# Altium schematic symbol library Pedro_sch_lib.SchLib: 102 symbols
Pins are listed as number, name and electrical type; pins without a type are passive.

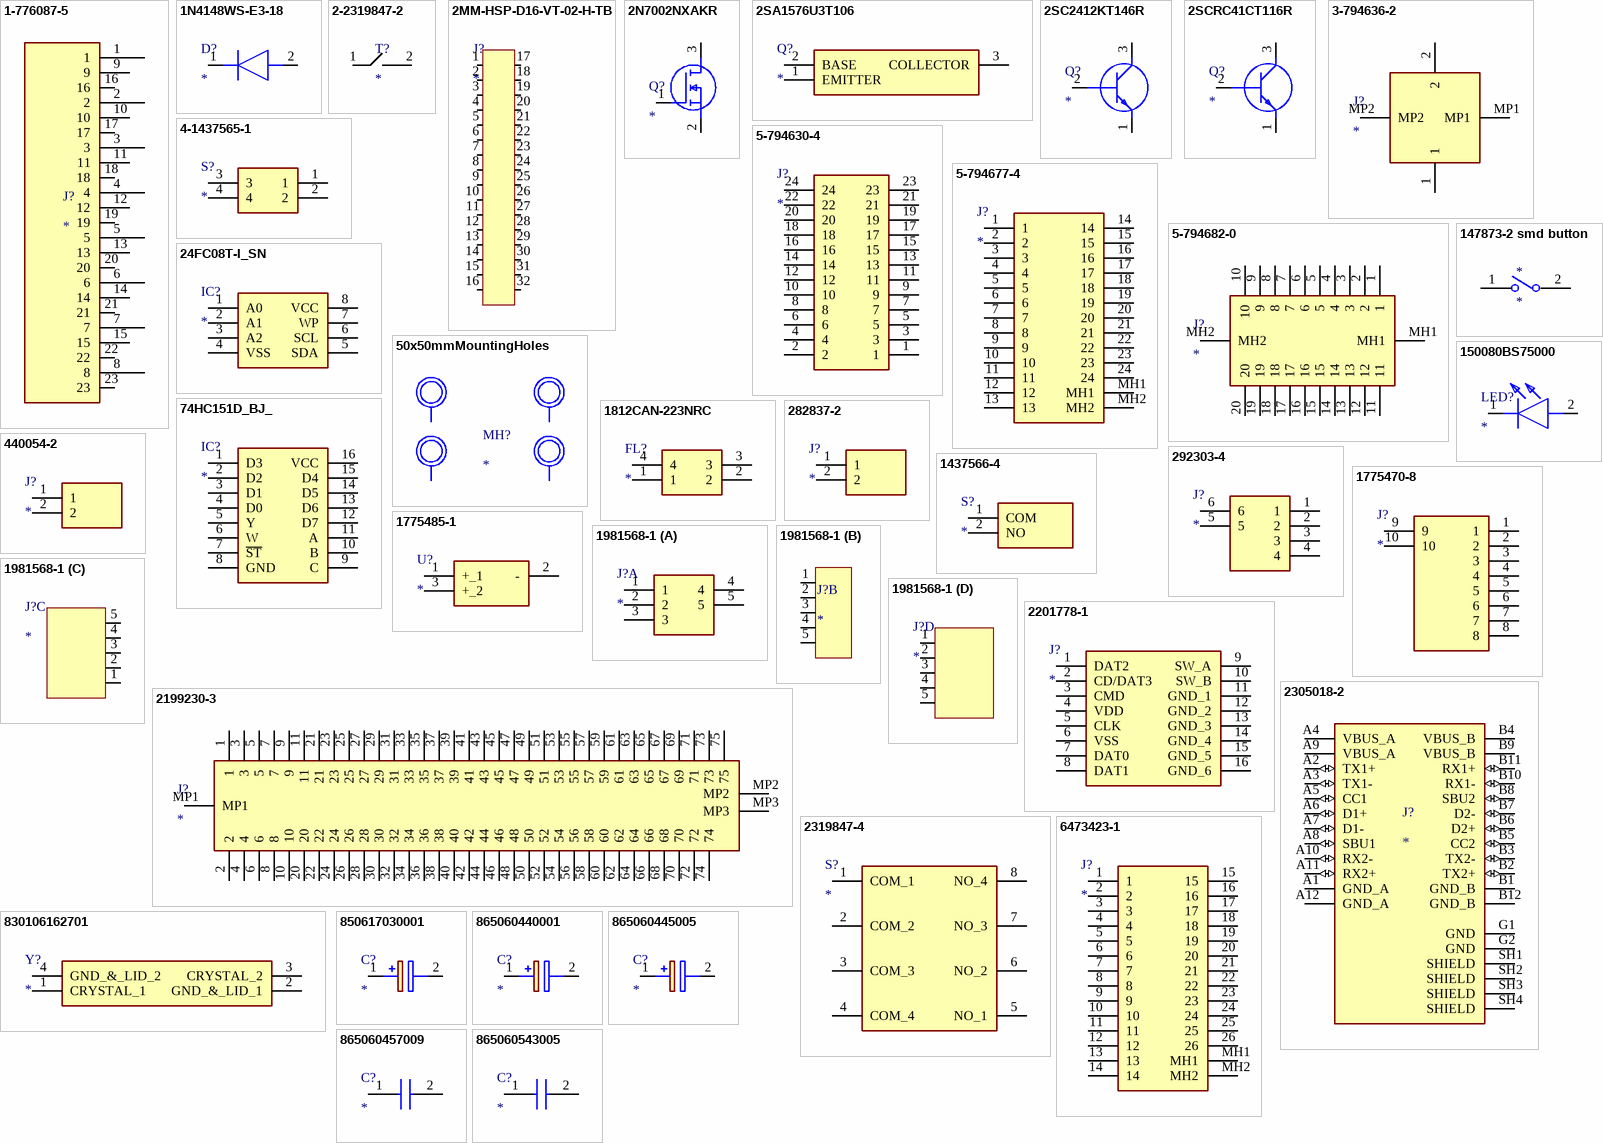
[diagram p0: symbols 1-776087-5 to 865060543005]

## 1-776087-5
designator J?
CONN HDR 23POS R/A W/GASKET AU
footprint 1-776087-5 (CONN HDR 23POS R/A W/GASKET AU)
pins: 1, 2, 3, 4, 5, 6, 7, 8, 9, 10, 11, 12, 13, 14, 15, 16, 17, 18, 19, 20, 21, 22, 23

## 1N4148WS-E3-18
designator D?
Diode; Manufacturer_Name: Vishay; Manufacturer_Part_Number: 1N4148WS-E3-18; Datasheet Link: https://www.vishay.com/docs/85751/1n4148ws.pdf; Height: 1.15mm; Mouser Part Number: 78-1N4148WS-E3-18; Mouser Price/Stock: https://www.mouser.co.uk/ProductDetail/Vishay-Semiconductors/1N4148WS-E3-18?qs=bTzheeSci6SMGZleBxLU%2Fg%3D%3D; Arrow Part Number: 1N4148WS-E3-18; Arrow Price/Stock: https://www.arrow.com/en/products/1n4148ws-e3-18/vishay?region=nac
footprint SOD2713X115N
pins: 1 K, 2 A

## 2-2319847-2
designator T?
footprint 2-2319847-2 (2)
pins: 1, 2

## 2MM-HSP-D16-VT-02-H-TB
designator J?
footprint 2MM-HSP-D16-VT-02-H-TB
pins: 1 (in), 2 (in), 3 (in), 4 (in), 5 (in), 6 (in), 7 (in), 8 (in), 9 (in), 10 (in), 11 (in), 12 (in), 13 (in), 14 (in), 15 (in), 16 (in), 17 (in), 18 (in), 19 (in), 20 (in), 21 (in), 22 (in), 23 (in), 24 (in), 25 (in), 26 (in), 27 (in), 28 (in), 29 (in), 30 (in), 31 (in), 32 (in)

## 2N7002NXAKR
designator Q?
MOSFET (N-Channel); Manufacturer_Name: Nexperia; Manufacturer_Part_Number: 2N7002NXAKR; Datasheet Link: https://assets.nexperia.com/documents/data-sheet/2N7002NXAK.pdf; Height: 1.1mm; Mouser Part Number: 771-2N7002NXAKR; Mouser Price/Stock: https://www.mouser.co.uk/ProductDetail/Nexperia/2N7002NXAKR?qs=%252B6g0mu59x7JoAsZYPFXqhw%3D%3D; Arrow Part Number: 2N7002NXAKR; Arrow Price/Stock: https://www.arrow.com/en/products/2n7002nxakr/nexperia?region=europe
footprint SOT95P230X110-3N
pins: 1 G, 2 S, 3 D

## 2SA1576U3T106
designator Q?
Transistor; Manufacturer_Name: ROHM Semiconductor; Manufacturer_Part_Number: 2SA1576U3T106; Height: 1mm
footprint 2SA1576U3T106
pins: 1 EMITTER, 2 BASE, 3 COLLECTOR

## 2SC2412KT146R
designator Q?
Transistor BJT NPN; Manufacturer_Name: ROHM Semiconductor; Manufacturer_Part_Number: 2SC2412KT146R; Datasheet Link: https://componentsearchengine.com/Datasheets/2/2SC2412KT146R.pdf; Height: 1mm; Mouser Part Number: 755-2SC2412KT146R; Mouser Price/Stock: https://www.mouser.co.uk/ProductDetail/ROHM-Semiconductor/2SC2412KT146R?qs=4kLU8WoGk0tpvx7TJSz0kg%3D%3D
footprint 2SC3906KT146ERS
pins: 1 E, 2 B, 3 C

## 2SCRC41CT116R
designator Q?
Transistor BJT NPN; Manufacturer_Name: ROHM Semiconductor; Manufacturer_Part_Number: 2SCRC41CT116R; Datasheet Link: https://datasheet.datasheetarchive.com/originals/distributors/Datasheets_SAMA/953df4fe31d6a1f75743e1da8a6d7a5d.pdf; Mouser Part Number: 755-2SCRC41CT116; Mouser Price/Stock: https://www.mouser.co.uk/ProductDetail/ROHM-Semiconductor/2SCRC41CT116R?qs=BJlw7L4Cy7%252BOqTjwpUJKrw%3D%3D
footprint SST2222AT116
pins: 1 E, 2 B, 3 C

## 3-794636-2
designator J?
Connector; Manufacturer_Name: TE Connectivity; Manufacturer_Part_Number: 3-794636-2; Datasheet Link: https://www.te.com/commerce/DocumentDelivery/DDEController?Action=srchrtrv&DocNm=micro-mate-n-lok-connector-qrg&DocType=Data%20Sheet&DocLang=English&PartCntxt=3-794636-2&DocFormat=pdf; Height: 9.24mm; Mouser Part Number: 571-3-794636-2; Mouser Price/Stock: https://www.mouser.co.uk/ProductDetail/TE-Connectivity-AMP/3-794636-2?qs=v9Lq4wUS19yMv%2FoCX5pCFA%3D%3D; Arrow Part Number: 3-794636-2; Arrow Price/Stock: https://www.arrow.com/en/products/3-794636-2/te-connectivity
footprint 37946362
pins: 1, 2, MP1, MP2

## 4-1437565-1
designator S?
Switch; Manufacturer_Name: TE Connectivity; Manufacturer_Part_Number: 4-1437565-1; Mouser Part Number: N/A; Mouser Price/Stock: https://www.mouser.com/Search/Refine.aspx?Keyword=N%2FA; Arrow Part Number: 4-1437565-1; Arrow Price/Stock: https://www.arrow.com/en/products/4-1437565-1/te-connectivity?region=europe
footprint FSM-SWITCH
pins: 1, 2, 3, 4

## 5-794630-4
designator J?
Connector; Manufacturer_Name: TE Connectivity; Manufacturer_Part_Number: 5-794630-4; Datasheet Link: https://www.te.com/commerce/DocumentDelivery/DDEController?Action=srchrtrv&DocNm=micro-mate-n-lok-connector-qrg&DocType=Data%20Sheet&DocLang=English&PartCntxt=5-794630-4&DocFormat=pdf; Height: 9.44mm; Mouser Part Number: 571-5-794630-4; Mouser Price/Stock: https://www.mouser.co.uk/ProductDetail/TE-Connectivity-AMP/5-794630-4?qs=aUp63snYJwAp03rqt0NfIw%3D%3D; Arrow Part Number: 5-794630-4; Arrow Price/Stock: https://www.arrow.com/en/products/5-794630-4/te-connectivity
footprint 57946304
pins: 1, 2, 3, 4, 5, 6, 7, 8, 9, 10, 11, 12, 13, 14, 15, 16, 17, 18, 19, 20, 21, 22, 23, 24

## 5-794677-4
designator J?
Connector; Manufacturer_Name: TE Connectivity; Manufacturer_Part_Number: 5-794677-4; Datasheet Link: https://www.te.com/commerce/DocumentDelivery/DDEController?Action=srchrtrv&DocNm=micro-mate-n-lok-connector-qrg&DocType=Data%20Sheet&DocLang=English&PartCntxt=5-794677-4&DocFormat=pdf; Height: 8.8mm; Mouser Part Number: 571-5-794677-4; Mouser Price/Stock: https://www.mouser.co.uk/ProductDetail/TE-Connectivity-AMP/5-794677-4?qs=FMZNX9%2FJjohUG%252B03dhkNbw%3D%3D; Arrow Part Number: 5-794677-4; Arrow Price/Stock: https://www.arrow.com/en/products/5-794677-4/te-connectivity?region=nac
footprint 57946774
pins: 1, 2, 3, 4, 5, 6, 7, 8, 9, 10, 11, 12, 13, 14, 15, 16, 17, 18, 19, 20, 21, 22, 23, 24, MH1, MH2

## 5-794682-0
designator J?
Connector; Manufacturer_Name: TE Connectivity; Manufacturer_Part_Number: 5-794682-0; Datasheet Link: https://www.te.com/commerce/DocumentDelivery/DDEController?Action=srchrtrv&DocNm=1773458-4_MICRO_MATE_N_LOK&DocType=Data+Sheet&DocLang=English&PartCntxt=5-794682-0&DocFormat=pdf; Height: 9.44mm; Mouser Part Number: 571-5-794682-0; Arrow Part Number: 5-794682-0; Arrow Price/Stock: https://www.arrow.com/en/products/5-794682-0/te-connectivity
footprint 57946820
pins: 1, 2, 3, 4, 5, 6, 7, 8, 9, 10, 11, 12, 13, 14, 15, 16, 17, 18, 19, 20, MH1, MH2

## 24FC08T-I_SN
designator IC?
Integrated Circuit; Manufacturer_Name: Microchip; Manufacturer_Part_Number: 24FC08T-I/SN; Datasheet Link: https://ww1.microchip.com/downloads/en/DeviceDoc/24AA08-24LC08B-24FC08-8K-I2C-Serial-EEPROM-20001710M.pdf; Height: 1.75mm; Mouser Part Number: 579-24FC08T-I/SN; Mouser Price/Stock: https://www.mouser.co.uk/ProductDetail/Microchip-Technology/24FC08T-I-SN?qs=xZ%2FP%252Ba9zWqaezx4tzQ%2FZjQ%3D%3D
footprint SOIC127P600X175-8N
pins: 1 A0, 2 A1, 3 A2, 4 VSS, 5 SDA, 6 SCL, 7 WP, 8 VCC

## 50x50mmMountingHoles
designator MH?
footprint 50x50mmMountingHoles
pins: 1, 2, 3, 4

## 74HC151D_BJ_
designator IC?
Integrated Circuit; Manufacturer_Name: Toshiba; Manufacturer_Part_Number: 74HC151D(BJ); Datasheet Link: https://toshiba.semicon-storage.com/info/docget.jsp?did=37241&prodName=74HC151D; Height: 1.75mm; Mouser Part Number: 757-74HC151DBJ; Mouser Price/Stock: https://www.mouser.co.uk/ProductDetail/Toshiba/74HC151DBJ?qs=lQAVKuKFhkK%2FsZbA3g%2Fr2w%3D%3D; Arrow Part Number: 74HC151D(BJ); Arrow Price/Stock: https://www.arrow.com/en/products/74hc151d-bj/toshiba
footprint SOIC127P600X175-16N
pins: 1 D3, 2 D2, 3 D1, 4 D0, 5 Y, 6 W, 7 ~{ST}, 8 GND, 9 C, 10 B, 11 A, 12 D7, 13 D6, 14 D5, 15 D4, 16 VCC

## 1812CAN-223NRC
designator FL?
Filter; Manufacturer_Name: COILCRAFT; Manufacturer_Part_Number: 1812CAN-223NRC; Datasheet Link: https://www.coilcraft.com/getmedia/07970769-ca48-411d-9c96-6ae867bbb31e/1812can.pdf; Height: 3mm; Mouser Part Number: 994-1812CAN-223NRC; Mouser Price/Stock: https://www.mouser.co.uk/ProductDetail/Coilcraft/1812CAN-223NRC?qs=wnTfsH77Xs58ULcmqHaGYA%3D%3D
footprint 1812CAN223NRC
pins: 1, 2, 3, 4

## 147873-2 smd button
designator *
footprint 147873-2 smd button
pins: 1, 2

## 150080BS75000
designator LED?
LED; Manufacturer_Name: Wurth Elektronik; Manufacturer_Part_Number: 150080BS75000; Datasheet Link: https://katalog.we-online.com/led/datasheet/150080BS75000.pdf; Height: 0.8mm; Mouser Part Number: 710-150080BS75000; Mouser Price/Stock: https://www.mouser.co.uk/ProductDetail/Wurth-Elektronik/150080BS75000?qs=2kOmHSv6VfT2tBo3UPVqAQ%3D%3D
footprint LEDC2012X80N
pins: 1 K, 2 A

## 282837-2
designator J?
Connector; Manufacturer_Name: TE Connectivity; Manufacturer_Part_Number: 282837-2; Datasheet Link: https://www.te.com/commerce/DocumentDelivery/DDEController?Action=srchrtrv&DocNm=282837&DocType=Customer+Drawing&DocLang=English&DocFormat=pdf&PartCntxt=282837-2; Height: 10.3mm; Mouser Part Number: 571-2828372; Mouser Price/Stock: https://www.mouser.co.uk/ProductDetail/TE-Connectivity/282837-2?qs=A%252Bip%252BNCYi6O2H0NGWOeAxg%3D%3D; Arrow Part Number: 282837-2; Arrow Price/Stock: https://www.arrow.com/en/products/282837-2/te-connectivity?region=europe
footprint 2828372
pins: 1, 2

## 292303-4
designator J?
Connector; Manufacturer_Name: TE Connectivity; Manufacturer_Part_Number: 292303-4; Datasheet Link: https://www.te.com/commerce/DocumentDelivery/DDEController?Action=srchrtrv&DocNm=292303&DocType=Customer+Drawing&DocLang=English&DocFormat=pdf&PartCntxt=292303-4; Height: 7.01mm; Mouser Part Number: 571-292303-4; Mouser Price/Stock: https://www.mouser.co.uk/ProductDetail/TE-Connectivity/292303-4?qs=G%2F5vCLrg9vwCSlBtJwPuyg%3D%3D; Arrow Part Number: 292303-4; Arrow Price/Stock: https://www.arrow.com/en/products/292303-4/te-connectivity?region=europe
footprint 2923034
pins: 1, 2, 3, 4, 5, 6

## 440054-2
designator J?
Connector; Manufacturer_Name: TE Connectivity; Manufacturer_Part_Number: 440054-2; Datasheet Link: https://www.te.com/commerce/DocumentDelivery/DDEController?Action=srchrtrv&DocNm=1-1773713-2_HPI_QRG_EN&DocType=Data%20Sheet&DocLang=English&PartCntxt=440054-2&DocFormat=pdf; Height: 6.35mm; Mouser Part Number: 571-440054-2; Mouser Price/Stock: https://www.mouser.co.uk/ProductDetail/TE-Connectivity/440054-2?qs=JFPmFzpscO4RQaczYEA68w%3D%3D; Arrow Part Number: 440054-2; Arrow Price/Stock: https://www.arrow.com/en/products/440054-2/te-connectivity?region=europe
footprint SHDR2W70P0X200_1X2_600X470X635P
pins: 1, 2

## 1437566-4
designator S?
Switch; Manufacturer_Name: TE Connectivity; Manufacturer_Part_Number: 1437566-4; Datasheet Link: https://www.te.com/commerce/DocumentDelivery/DDEController?Action=showdoc&DocId=Customer+Drawing%7F1437566-3%7FC2%7Fpdf%7FEnglish%7FENG_CD_1437566-3_C7F14375662_1437566_3_1_c.dwg.pdf%-4; Height: 4.87mm; Mouser Part Number: N/A; Mouser Price/Stock: https://www.mouser.co.uk/ProductDetail/TE-Connectivity-Alcoswitch/1437566-4?qs=xoXDFGdkQ2nbcMrTmW1sHA%3D%3D; Arrow Part Number: 1437566-4; Arrow Price/Stock: https://www.arrow.com/en/products/1437566-4/te-connectivity?region=europe
footprint 14375664
pins: 1 COM, 2 NO

## 1775470-8
designator J?
Connector; Manufacturer_Name: TE Connectivity; Manufacturer_Part_Number: 1775470-8; Datasheet Link: https://www.te.com/commerce/DocumentDelivery/DDEController?Action=srchrtrv&DocNm=1-1773713-2_HPI_QRG_EN&DocType=Data%20Sheet&DocLang=English&PartCntxt=1775470-8&DocFormat=pdf; Height: 6.45mm; Mouser Part Number: 571-1775470-8; Mouser Price/Stock: https://www.mouser.co.uk/ProductDetail/TE-Connectivity/1775470-8?qs=fvVej%2FMj3jfo21NaWvXI4g%3D%3D
footprint 17754708
pins: 1, 2, 3, 4, 5, 6, 7, 8, 9, 10

## 1775485-1
designator U?
Undefined or Miscellaneous; Manufacturer_Name: TE Connectivity; Manufacturer_Part_Number: 1775485-1; Datasheet Link: https://componentsearchengine.com/Datasheets/1/1775485-1.pdf; Height: 18.88mm; Mouser Part Number: 571-1775485-1; Mouser Price/Stock: https://www.mouser.co.uk/ProductDetail/TE-Connectivity/1775485-1?qs=wds1f20rnm1zdRmTAAf4bg%3D%3D; Arrow Part Number: 1775485-1; Arrow Price/Stock: https://www.arrow.com/en/products/1775485-1/te-connectivity?region=nac
footprint 17754851
pins: 1 +_1, 2 -, 3 +_2

## 1981568-1
designator J?
Connector; Manufacturer_Name: TE Connectivity; Manufacturer_Part_Number: 1981568-1; Datasheet Link: http://www.te.com/commerce/DocumentDelivery/DDEController?Action=srchrtrv&DocNm=1981568&DocType=Customer+Drawing&DocLang=English; Mouser Part Number: 571-1981568-1; Mouser Price/Stock: https://www.mouser.co.uk/ProductDetail/TE-Connectivity/1981568-1?qs=zxTme0yW%2FbaAfvOKTKC5hw%3D%3D; Arrow Part Number: 1981568-1; Arrow Price/Stock: https://www.arrow.com/en/products/1981568-1/te-connectivity?region=europe
footprint 1981568-1
part A pins: 1, 2, 3, 4, 5
part B pins: 1, 2, 3, 4, 5
part C pins: 1 VCC, 2 D-, 3 D+, 4 ID, 5 GND
part D pins: 1 VCC, 2 D-, 3 D+, 4 ID, 5 GND

## 2199230-3
designator J?
Connector; Manufacturer_Name: TE Connectivity; Manufacturer_Part_Number: 2199230-3; Datasheet Link: https://componentsearchengine.com/Datasheets/2/2199230-3.pdf; Height: 4.2mm; Mouser Part Number: 571-2199230-3; Mouser Price/Stock: https://www.mouser.co.uk/ProductDetail/TE-Connectivity/2199230-3?qs=EQCnRgr4b6HElQOKr5ma1Q%3D%3D; Arrow Part Number: 2199230-3; Arrow Price/Stock: https://www.arrow.com/en/products/2199230-3/te-connectivity?region=nac
footprint 21992303
footprint 21992303
pins: 1, 2, 3, 4, 5, 6, 7, 8, 9, 10, 11, 20, 21, 22, 23, 24, 25, 26, 27, 28, 29, 30, 31, 32, 33, 34, 35, 36, 37, 38, 39, 40, 41, 42, 43, 44, 45, 46, 47, 48, 49, 50, 51, 52, 53, 54, 55, 56, 57, 58, 59, 60, 61, 62, 63, 64, 65, 66, 67, 68, 69, 70, 71, 72, 73, 74, 75, MP1, MP2, MP3

## 2201778-1
designator J?
Connector; Manufacturer_Name: TE Connectivity; Manufacturer_Part_Number: 2201778-1; Datasheet Link: https://www.te.com/commerce/DocumentDelivery/DDEController?Action=showdoc&DocId=Customer+Drawing%7F2201778%7FB%7Fpdf%7FJapanese%7FJPN_CD_2201778_B.pdf%7F2201778-1; Height: 1.95mm; Mouser Part Number: 571-2201778-1; Mouser Price/Stock: https://www.mouser.co.uk/ProductDetail/TE-Connectivity/2201778-1?qs=%2F6W%2F9%2FHWvcBMWWw9w8oBng%3D%3D; Arrow Part Number: 2201778-1; Arrow Price/Stock: https://www.arrow.com/en/products/2201778-1/te-connectivity?region=nac
footprint 22017781
pins: 1 DAT2, 2 CD/DAT3, 3 CMD, 4 VDD, 5 CLK, 6 VSS, 7 DAT0, 8 DAT1, 9 SW_A, 10 SW_B, 11 GND_1, 12 GND_2, 13 GND_3, 14 GND_4, 15 GND_5, 16 GND_6

## 2305018-2
designator J?
MP: 2305018-2; Package: None; Price: None; Value: *; Availability: Unavailable
footprint TE_2305018-2
pins: A1 GND_A (power), A2 TX1+ (io), A3 TX1- (io), A4 VBUS_A (power), A5 CC1 (io), A6 D1+ (io), A7 D1- (io), A8 SBU1 (io), A9 VBUS_A (power), A10 RX2- (io), A11 RX2+ (io), A12 GND_A (power), B1 GND_B (power), B2 TX2+ (io), B3 TX2- (io), B4 VBUS_B (power), B5 CC2 (io), B6 D2+ (io), B7 D2- (io), B8 SBU2 (io), B9 VBUS_B (power), B10 RX1- (io), B11 RX1+ (io), B12 GND_B (power), G1 GND (power), G2 GND (power), SH1 SHIELD, SH2 SHIELD, SH3 SHIELD, SH4 SHIELD

## 2319847-4
designator S?
Switch; Manufacturer_Name: TE Connectivity; Manufacturer_Part_Number: 2319847-4; Datasheet Link: https://www.te.com/commerce/DocumentDelivery/DDEController?Action=srchrtrv&DocNm=2319847&DocType=Customer+Drawing&DocLang=English&PartCntxt=2-2319847-4&DocFormat=pdf; Height: 3.7mm
footprint 23198474
pins: 1 COM_1, 2 COM_2, 3 COM_3, 4 COM_4, 5 NO_1, 6 NO_2, 7 NO_3, 8 NO_4

## 6473423-1
designator J?
Connector; Manufacturer_Name: TE Connectivity; Manufacturer_Part_Number: 6473423-1; Datasheet Link: https://www.te.com/commerce/DocumentDelivery/DDEController?Action=showdoc&DocId=Customer+Drawing%7F9-1437287-8%7FA1%7Fpdf%7FEnglish%7FENG_CD_9-1437287-8_A1.pdf%7F6473423-1; Height: 27.9mm; Mouser Part Number: 571-6473423-1; Mouser Price/Stock: https://www.mouser.co.uk/ProductDetail/TE-Connectivity/6473423-1?qs=XhI5AayaxxW9FyxB9N39mQ%3D%3D
footprint 64734231
pins: 1, 2, 3, 4, 5, 6, 7, 8, 9, 10, 11, 12, 13, 14, 15, 16, 17, 18, 19, 20, 21, 22, 23, 24, 25, 26, MH1, MH2

## 830106162701
designator Y?
Crystal or Oscillator; Manufacturer_Name: Wurth Elektronik; Manufacturer_Part_Number: 830106162701; Datasheet Link: https://www.we-online.com/components/products/datasheet/830106162701.pdf; Height: 1mm; Mouser Part Number: 710-830106162701; Mouser Price/Stock: https://www.mouser.co.uk/ProductDetail/Wurth-Elektronik/830106162701?qs=hd1VzrDQEGiB2nVeND4SIw%3D%3D
footprint 830106162701
pins: 1 CRYSTAL_1, 2 GND_&_LID_1, 3 CRYSTAL_2, 4 GND_&_LID_2

## 850617030001
designator C?
Capacitor Polarised; Manufacturer_Name: Wurth Elektronik; Manufacturer_Part_Number: 850617030001; Datasheet Link: https://katalog.we-online.de/pbs/datasheet/850617030001.pdf; Height: 21.5mm; Mouser Part Number: 710-850617030001; Mouser Price/Stock: https://www.mouser.co.uk/ProductDetail/Wurth-Elektronik/850617030001?qs=l7cgNqFNU1hh13Y2cfV1Tw%3D%3D
footprint CAPPRD350W62D800H2150
pins: 1 +, 2 -

## 865060440001
designator C?
Capacitor Polarised; Manufacturer_Name: Wurth Elektronik; Manufacturer_Part_Number: 865060440001; Datasheet Link: http://katalog.we-online.com/pbs/datasheet/865060440001.pdf; Height: 5.5mm; Mouser Part Number: 710-865060440001; Mouser Price/Stock: https://www.mouser.co.uk/ProductDetail/Wurth-Elektronik/865060440001?qs=0KOYDY2FL2%2F0%252BB%2FYmDkXJw%3D%3D
footprint CAPAE530X550N
pins: 1 +, 2 -

## 865060445005
designator C?
Capacitor Polarised; Manufacturer_Name: Wurth Elektronik; Manufacturer_Part_Number: 865060445005; Datasheet Link: https://ms.componentsearchengine.com/Datasheets/2/865060445005.pdf; Height: 7.7mm; Mouser Part Number: 710-865060445005; Mouser Price/Stock: https://www.mouser.co.uk/ProductDetail/Wurth-Elektronik/865060445005?qs=0KOYDY2FL2%252BCv0w4UmroOg%3D%3D
footprint CAPAE660X770N
pins: 1 +, 2 -

## 865060457009
designator C?
Capacitor; Manufacturer_Name: Wurth Elektronik; Manufacturer_Part_Number: 865060457009; Datasheet Link: https://www.mouser.ch/datasheet/2/445/865060457009-3100105.pdf; Height: 10.5mm; Mouser Part Number: 710-865060457009; Mouser Price/Stock: https://www.mouser.com/Search/Refine.aspx?Keyword=710-865060457009
footprint CAPAE1030X1050N
pins: 1 +, 2 -

## 865060543005
designator C?
Capacitor; Manufacturer_Name: Wurth Elektronik; Manufacturer_Part_Number: 865060543005; Datasheet Link: https://componentsearchengine.com/Datasheets/1/865060543005.pdf; Height: 5.5mm; Mouser Part Number: 710-865060543005; Mouser Price/Stock: https://www.mouser.co.uk/ProductDetail/Wurth-Elektronik/865060543005?qs=0KOYDY2FL29pKd1yRWsrOw%3D%3D
footprint 865060543005
pins: 1 +, 2 -

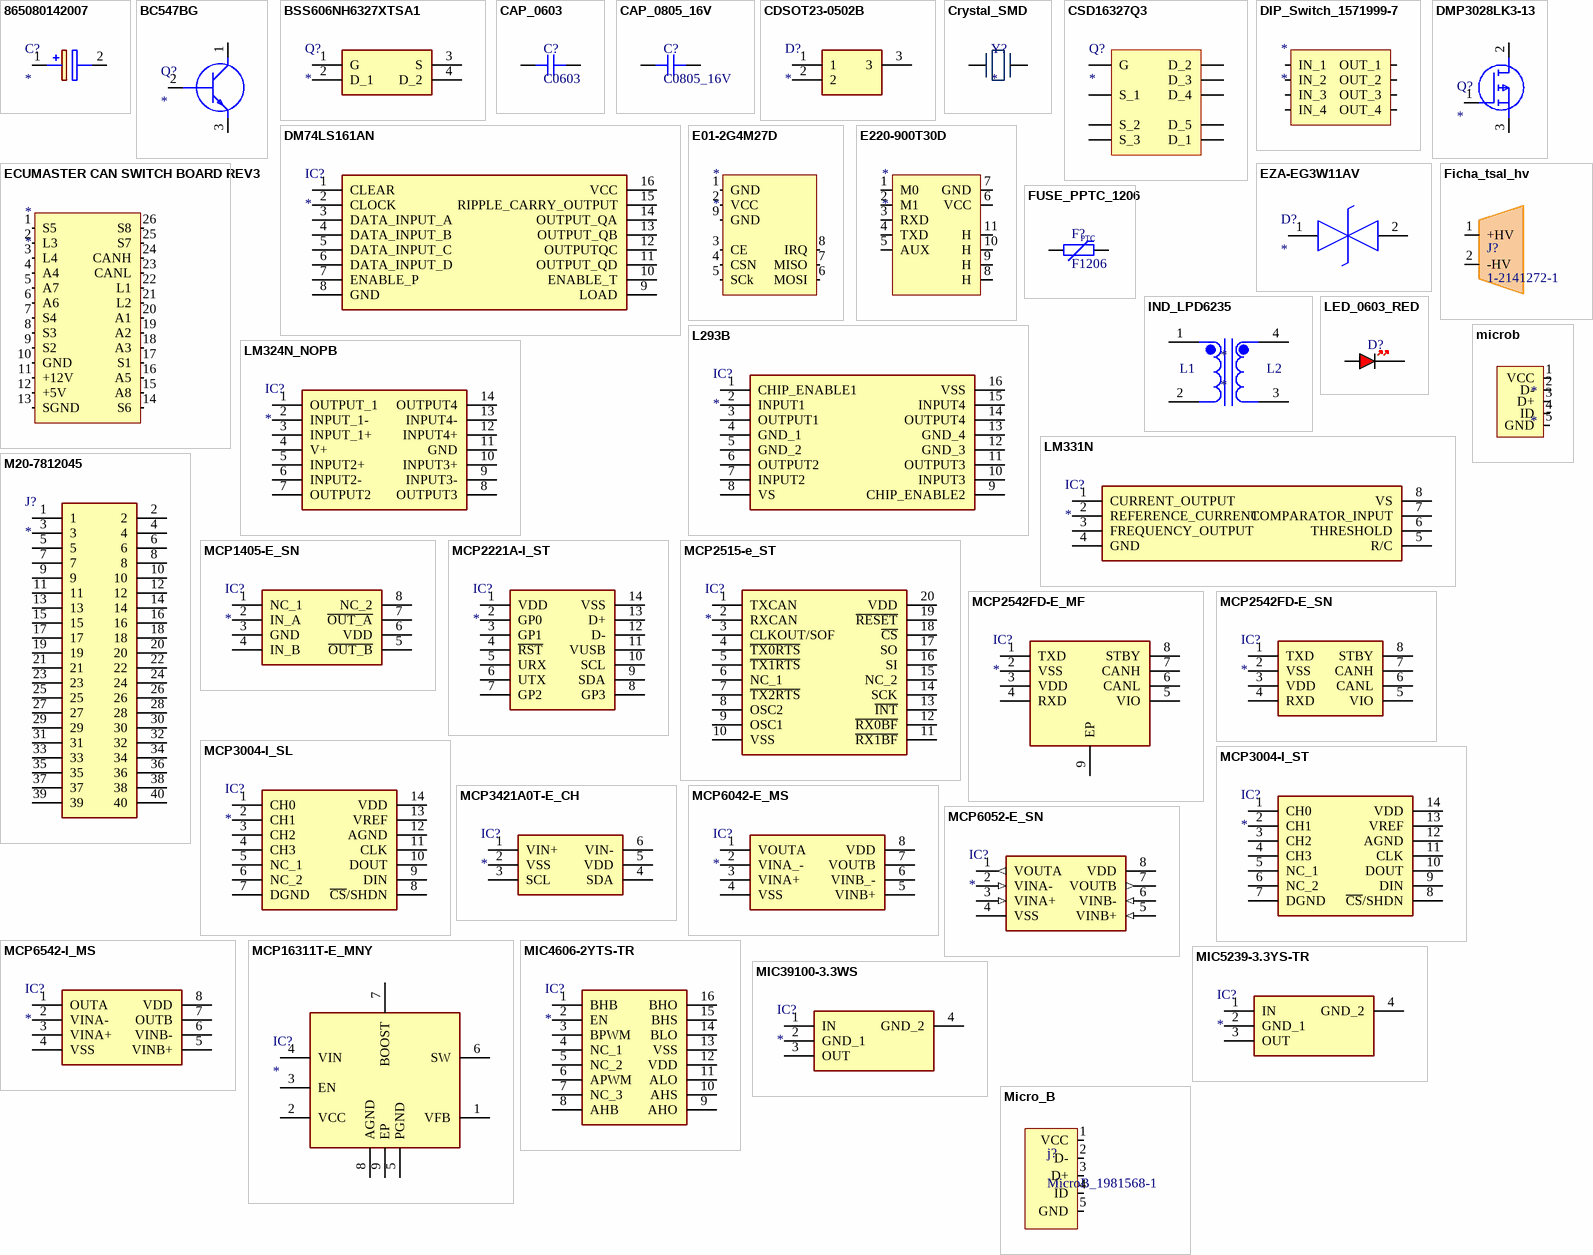
[diagram p1: symbols 865080142007 to microb]

## 865080142007
designator C?
Capacitor Polarised; Manufacturer_Name: Wurth Elektronik; Manufacturer_Part_Number: 865080142007; Datasheet Link: https://katalog.we-online.com/pbs/datasheet/865080142007.pdf; Height: 5.5mm; Mouser Part Number: 710-865080142007; Mouser Price/Stock: https://www.mouser.co.uk/ProductDetail/Wurth-Elektronik/865080142007?qs=0KOYDY2FL2%2Fwso3YmuIP2w%3D%3D
footprint CAPAE530X550N
pins: 1 +, 2 -

## BC547BG
designator Q?
Transistor BJT NPN; Manufacturer_Name: onsemi; Manufacturer_Part_Number: BC547BG; Datasheet Link: https://datasheet.datasheetarchive.com/originals/distributors/Datasheets-23/DSA-455923.pdf; Height: 5.33mm; Mouser Part Number: N/A; Mouser Price/Stock: http://www.mouser.com/Search/ProductDetail.aspx?qs=NSmgnqlvnz5NIKIycfR5CQ%3d%3d; Arrow Part Number: BC547BG; Arrow Price/Stock: http://www.arrow.com/en/products/bc547bg/on-semiconductor
footprint TO-92_(TO-226)
pins: 1 C, 2 B, 3 E

## BSS606NH6327XTSA1
designator Q?
MOSFET (N-Channel); Manufacturer_Name: Infineon; Manufacturer_Part_Number: BSS606NH6327XTSA1; Datasheet Link: https://www.infineon.com/dgdl/Infineon-BSS606N-DS-v02_02-en.pdf?fileId=db3a30433dfcb54c013dfd4f43ed0120; Height: 1.6mm; Mouser Part Number: 726-BSS606NH6327XTSA; Mouser Price/Stock: https://www.mouser.co.uk/ProductDetail/Infineon-Technologies/BSS606NH6327XTSA1?qs=9Y9qB%2FCsC3lGGr4kqFEodQ%3D%3D; Arrow Part Number: BSS606NH6327XTSA1; Arrow Price/Stock: https://www.arrow.com/en/products/bss606nh6327xtsa1/infineon-technologies-ag
footprint BSS606NH6327XTSA1
pins: 1 G, 2 D_1, 3 S, 4 D_2

## CAP_0603
designator C?, comment C0603
Capacitor SMD 0603; Manufacturer: *; Manufacturer Part Number: *; Distributor Link: *; LCSC: *; Rating: *; Dielectric: *
footprint CAP_0603
pins: 1, 2

## CAP_0805_16V
designator C?, comment C0805_16V
Capacitor SMD 0805 16V
footprint CAP_0805
pins: 1, 2

## CDSOT23-0502B
designator D?
TVS Diode (Bi-directional); Manufacturer_Name: Bourns; Manufacturer_Part_Number: CDSOT23-0502B; Datasheet Link: https://componentsearchengine.com/Datasheets/5/CDSOT23-0502B.pdf; Height: 1.05mm; Mouser Part Number: 652-CDSOT23-0502B; Mouser Price/Stock: https://www.mouser.co.uk/ProductDetail/Bourns/CDSOT23-0502B?qs=6S5Watp5UnLRIGsPgx0eRQ%3D%3D; Arrow Part Number: CDSOT23-0502B; Arrow Price/Stock: https://www.arrow.com/en/products/cdsot23-0502b/bourns?region=nac
footprint CDSOT230502B
pins: 1, 2, 3

## Crystal_SMD
designator Y?
footprint ABM38000MHZC4T
pins: 1, 2

## CSD16327Q3
designator Q?
MOSFET (N-Channel); Manufacturer_Name: Texas Instruments; Manufacturer_Part_Number: CSD16327Q3; Datasheet Link: https://www.ti.com/lit/ds/symlink/csd16327q3.pdf?HQS=dis-mous-null-mousermode-dsf-pf-null-wwe&ts=1620965148072&ref_url=https%253A%252F%252Fwww.mouser.com%252F; Height: 1.1mm; Mouser Part Number: 595-CSD16327Q3; Mouser Price/Stock: https://www.mouser.co.uk/ProductDetail/Texas-Instruments/CSD16327Q3?qs=3jfYfyvUSwCG33cNK3hedw%3D%3D; Arrow Part Number: CSD16327Q3; Arrow Price/Stock: https://www.arrow.com/en/products/csd16327q3/texas-instruments?region=nac
footprint CSD16327Q3
pins: 1 S_1, 2 S_2, 3 S_3, 4 G, 5 D_1 (power), 6 D_2 (power), 7 D_3 (power), 8 D_4 (power), 9 D_5 (power)

## DIP_Switch_1571999-7
designator *
footprint DIP_Switch_1571999-7 - duplicate
pins: 1 IN_1, 2 IN_2, 3 IN_3, 4 IN_4, 5 OUT_4, 6 OUT_3, 7 OUT_2, 8 OUT_1

## DM74LS161AN
designator IC?
Integrated Circuit; Manufacturer_Name: onsemi; Manufacturer_Part_Number: DM74LS161AN; Datasheet Link: https://media.digikey.com/pdf/Data%20Sheets/Fairchild%20PDFs/DM74LS161A,163A.pdf; Height: 5.08mm; Mouser Part Number: 512-DM74LS161AN; Mouser Price/Stock: https://www.mouser.co.uk/ProductDetail/ON-Semiconductor-Fairchild/DM74LS161AN?qs=bQyqOsPbpX%2Fz3HsKaGP1jA%3D%3D
footprint DIP787W58P254L1930H508Q16N
pins: 1 CLEAR, 2 CLOCK, 3 DATA_INPUT_A, 4 DATA_INPUT_B, 5 DATA_INPUT_C, 6 DATA_INPUT_D, 7 ENABLE_P, 8 GND, 9 LOAD, 10 ENABLE_T, 11 OUTPUT_QD, 12 OUTPUTQC, 13 OUTPUT_QB, 14 OUTPUT_QA, 15 RIPPLE_CARRY_OUTPUT, 16 VCC

## DMP3028LK3-13
designator Q?
MOSFET (P-Channel); Manufacturer_Name: Diodes Inc.; Manufacturer_Part_Number: DMP3028LK3-13; Datasheet Link: https://componentsearchengine.com/Datasheets/1/DMP3028LK3-13.pdf; Height: 2.39mm; Mouser Part Number: 621-DMP3028LK3-13; Mouser Price/Stock: https://www.mouser.co.uk/ProductDetail/Diodes-Incorporated/DMP3028LK3-13?qs=OVC8WVYZliSFpRP3sPErZQ%3D%3D; Arrow Part Number: DMP3028LK3-13; Arrow Price/Stock: https://www.arrow.com/en/products/dmp3028lk3-13/diodes-incorporated
footprint DMP3028LK313
pins: 1 G, 2 D, 3 S

## E01-2G4M27D
designator *
footprint E01-2G4M27D
pins: 1 GND (in), 2 VCC (in), 3 CE (in), 4 CSN (in), 5 SCk (in), 6 MOSI (in), 7 MISO (in), 8 IRQ (in), 9 GND (in)

## E220-900T30D
designator *
footprint E220-900T30D
pins: 1 M0 (in), 2 M1 (in), 3 RXD (in), 4 TXD (in), 5 AUX (in), 6 VCC (in), 7 GND (in), 8 H (in), 9 H (in), 10 H (in), 11 H (in)

## ECUMASTER CAN SWITCH BOARD REV3
designator *
footprint ECUMASTER CAN SWITCH BOARD REV3
pins: 1 S5 (in), 2 L3 (in), 3 L4 (in), 4 A4 (in), 5 A7 (in), 6 A6 (in), 7 S4 (in), 8 S3 (in), 9 S2 (in), 10 GND (in), 11 +12V (in), 12 +5V (in), 13 SGND (in), 14 S6 (in), 15 A8 (in), 16 A5 (in), 17 S1 (in), 18 A3 (in), 19 A2 (in), 20 A1 (in), 21 L2 (in), 22 L1 (in), 23 CANL (in), 24 CANH (in), 25 S7 (in), 26 S8 (in)

## EZA-EG3W11AV
designator D?
Diode ESD (Bi-directional); Manufacturer_Name: Panasonic; Manufacturer_Part_Number: EZA-EG3W11AV; Datasheet Link: https://industrial.panasonic.com/cdbs/www-data/pdf/AWD0000/AWD0000C26.pdf; Height: 0.5mm; Mouser Part Number: 667-EZA-EG3W11AV; Mouser Price/Stock: https://www.mouser.co.uk/ProductDetail/Panasonic/EZA-EG3W11AV?qs=0lSvoLzn4L%252BhlS%252B2lqbWqw%3D%3D; Arrow Part Number: EZA-EG3W11AV; Arrow Price/Stock: https://www.arrow.com/en/products/eza-eg3w11av/panasonic; Simulation Data: https://industrial.panasonic.com/content/data/CC/files/EZAEG3W11AV.zip
footprint EZAEG3W11AV
pins: 1 K1, 2 K2

## Ficha_tsal_hv
designator J?, comment 1-2141272-1
TE 1-2141272-1
footprint Ficha_tsal_hv
pins: 1 +HV, 2 -HV

## FUSE_PPTC_1206
designator F?, comment F1206
Fuse PPTC SMD 1206; Manufacturer: *; Manufacturer Part Number: *
footprint FUSE_1206
pins: 1, 2
text: PTC

## IND_LPD6235
designator *
footprint IND_LPD6235
pins: 1, 2, 3, 4
text: L1; L2

## L293B
designator IC?
Integrated Circuit; Manufacturer_Name: STMicroelectronics; Manufacturer_Part_Number: L293B; Datasheet Link: http://www.st.com/web/en/resource/technical/document/datasheet/CD00000058.pdf; Height: 5.1mm; Mouser Part Number: 511-L293B; Mouser Price/Stock: https://www.mouser.co.uk/ProductDetail/STMicroelectronics/L293B?qs=gr8Zi5OG3Mhln2B1GrZirA%3D%3D; Arrow Part Number: L293B; Arrow Price/Stock: https://www.arrow.com/en/products/l293b/stmicroelectronics?region=nac
footprint DIP850W50P254L2000H510Q16N
pins: 1 CHIP_ENABLE1, 2 INPUT1, 3 OUTPUT1, 4 GND_1, 5 GND_2, 6 OUTPUT2, 7 INPUT2, 8 VS, 9 CHIP_ENABLE2, 10 INPUT3, 11 OUTPUT3, 12 GND_3, 13 GND_4, 14 OUTPUT4, 15 INPUT4, 16 VSS

## LED_0603_RED
designator D?, comment RED  (value not drawn)
LED 0603 RED SMD
footprint LED_0603_RED
pins: A, K

## LM324N_NOPB
designator IC?
Integrated Circuit; Manufacturer_Name: Texas Instruments; Manufacturer_Part_Number: LM324N/NOPB; Datasheet Link: http://www.ti.com/general/docs/lit/getliterature.tsp?genericPartNumber=LM324-N&fileType=pdf&HQS=ti-null-null-sf-df-pf-sep-wwe&DCM=yes; Height: 5.334mm; Mouser Part Number: 926-LM324N/NOPB; Mouser Price/Stock: https://www.mouser.co.uk/ProductDetail/Texas-Instruments/LM324N-NOPB?qs=X1J7HmVL2ZGOUbLumEeh2Q%3D%3D; Arrow Part Number: LM324N/NOPB; Arrow Price/Stock: https://www.arrow.com/en/products/lm324nnopb/texas-instruments?region=nac
footprint DIP794W56P254L1905H533Q14N
pins: 1 OUTPUT_1, 2 INPUT_1-, 3 INPUT_1+, 4 V+, 5 INPUT2+, 6 INPUT2-, 7 OUTPUT2, 8 OUTPUT3, 9 INPUT3-, 10 INPUT3+, 11 GND, 12 INPUT4+, 13 INPUT4-, 14 OUTPUT4

## LM331N
designator IC?
Integrated Circuit; Manufacturer_Name: Texas Instruments; Manufacturer_Part_Number: LM331N; Datasheet Link: https://www.ti.com/lit/ds/symlink/lm331.pdf?ts=1629180411524&ref_url=https%253A%252F%252Fwww.ti.com%252Fstore%252Fti%252Fen%252Fp%252Fproduct%252F%253Fp%253DLM331N%252FNOPB; Height: 5.08mm; Mouser Part Number: 926-LM331N; Mouser Price/Stock: https://www.mouser.co.uk/ProductDetail/Texas-Instruments/LM331N?qs=X1J7HmVL2ZFXr8PLB7optQ%3D%3D
footprint DIP794W53P254L959H508Q8N
pins: 1 CURRENT_OUTPUT, 2 REFERENCE_CURRENT, 3 FREQUENCY_OUTPUT, 4 GND, 5 R/C, 6 THRESHOLD, 7 COMPARATOR_INPUT, 8 VS

## M20-7812045
designator J?
Connector; Manufacturer_Name: Harwin; Manufacturer_Part_Number: M20-7812045; Datasheet Link: https://componentsearchengine.com/Datasheets/1/M20-7812045.pdf; Height: 3.7mm; Mouser Part Number: 855-M20-7812045; Mouser Price/Stock: https://www.mouser.co.uk/ProductDetail/Harwin/M20-7812045?qs=k41KVqW3ymrt1YgXO%2FWJcg%3D%3D
footprint M207812045
pins: 1, 2, 3, 4, 5, 6, 7, 8, 9, 10, 11, 12, 13, 14, 15, 16, 17, 18, 19, 20, 21, 22, 23, 24, 25, 26, 27, 28, 29, 30, 31, 32, 33, 34, 35, 36, 37, 38, 39, 40

## MCP1405-E_SN
designator IC?
Integrated Circuit; Manufacturer_Name: Microchip; Manufacturer_Part_Number: MCP1405-E/SN; Datasheet Link: https://datasheet.datasheetarchive.com/originals/distributors/SFDatasheet-4/sf-00090019.pdf; Height: 1.75mm; Mouser Part Number: 579-MCP1405-E/SN; Mouser Price/Stock: https://www.mouser.co.uk/ProductDetail/Microchip-Technology/MCP1405-E-SN?qs=usxtMOJb1Rz6iJkGGONxgg%3D%3D; Arrow Part Number: MCP1405-E/SN; Arrow Price/Stock: https://www.arrow.com/en/products/mcp1405-esn/microchip-technology
footprint SOIC127P600X175-8N
pins: 1 NC_1, 2 IN_A, 3 GND, 4 IN_B, 5 ~{OUT_B}, 6 VDD, 7 ~{OUT_A}, 8 NC_2

## MCP2221A-I_ST
designator IC?
Integrated Circuit; Manufacturer_Name: Microchip; Manufacturer_Part_Number: MCP2221A-I/ST; Datasheet Link: http://ww1.microchip.com/downloads/en/devicedoc/20005565b.pdf; Height: 1.2mm; Mouser Part Number: 579-MCP2221A-I/ST; Mouser Price/Stock: https://www.mouser.co.uk/ProductDetail/Microchip-Technology-Atmel/MCP2221A-I-ST?qs=ZEMkBHnybREMkqMgzOrcGQ%3D%3D; Arrow Part Number: MCP2221A-I/ST; Arrow Price/Stock: https://www.arrow.com/en/products/mcp2221a-ist/microchip-technology?region=nac
footprint SOP65P640X120-14N
pins: 1 VDD, 2 GP0, 3 GP1, 4 ~{RST}, 5 URX, 6 UTX, 7 GP2, 8 GP3, 9 SDA, 10 SCL, 11 VUSB, 12 D-, 13 D+, 14 VSS

## MCP2515-e_ST
designator IC?
Integrated Circuit; Manufacturer_Name: Microchip; Manufacturer_Part_Number: MCP2515-e/ST; Datasheet Link: https://datasheet.datasheetarchive.com/originals/distributors/SFDatasheet-4/sf-00090060.pdf; Height: 1.2mm; Mouser Part Number: 579-MCP2515-E/ST; Mouser Price/Stock: https://www.mouser.co.uk/ProductDetail/Microchip-Technology/MCP2515-E-ST?qs=y1t9dHv1DsIvDWDHTyyG6w%3D%3D; Arrow Part Number: MCP2515-E/ST; Arrow Price/Stock: https://www.arrow.com/en/products/mcp2515-est/microchip-technology?region=nac
footprint SOP65P640X120-20N
pins: 1 TXCAN, 2 RXCAN, 3 CLKOUT/SOF, 4 ~{TX0RTS}, 5 ~{TX1RTS}, 6 NC_1, 7 ~{TX2RTS}, 8 OSC2, 9 OSC1, 10 VSS, 11 ~{RX1BF}, 12 ~{RX0BF}, 13 ~{INT}, 14 SCK, 15 NC_2, 16 SI, 17 SO, 18 ~{CS}, 19 ~{RESET}, 20 VDD

## MCP2542FD-E_MF
designator IC?
Integrated Circuit; Manufacturer_Name: Microchip; Manufacturer_Part_Number: MCP2542FD-E/MF; Datasheet Link: http://ww1.microchip.com/downloads/en/devicedoc/20005514a.pdf; Height: 1mm; Mouser Part Number: 579-MCP2542FD-E/MF; Mouser Price/Stock: https://www.mouser.co.uk/ProductDetail/Microchip-Technology-Atmel/MCP2542FD-E-MF?qs=l7cgNqFNU1jog4BwTzULBw%3D%3D; Arrow Part Number: MCP2542FD-E/MF; Arrow Price/Stock: https://www.arrow.com/en/products/mcp2542fd-emf/microchip-technology?region=nac
footprint SON65P300X300X100-9N-D
pins: 1 TXD, 2 VSS, 3 VDD, 4 RXD, 5 VIO, 6 CANL, 7 CANH, 8 STBY, 9 EP

## MCP2542FD-E_SN
designator IC?
Integrated Circuit; Manufacturer_Name: Microchip; Manufacturer_Part_Number: MCP2542FD-E/SN; Datasheet Link: http://uk.rs-online.com/web/p/products/1771623; Height: 1.75mm; Mouser Part Number: 579-MCP2542FD-E/SN; Mouser Price/Stock: https://www.mouser.co.uk/ProductDetail/Microchip-Technology-Atmel/MCP2542FD-E-SN?qs=qdgZG5p0FZ5pNizBl1u80Q%3D%3D; Arrow Part Number: MCP2542FD-E/SN; Arrow Price/Stock: https://www.arrow.com/en/products/mcp2542fd-esn/microchip-technology?region=nac
footprint SOIC127P600X175-8N
pins: 1 TXD, 2 VSS, 3 VDD, 4 RXD, 5 VIO, 6 CANL, 7 CANH, 8 STBY

## MCP3004-I_SL
designator IC?
Integrated Circuit; Manufacturer_Name: Microchip; Manufacturer_Part_Number: MCP3004-I/SL; Datasheet Link: https://datasheet.datasheetarchive.com/originals/distributors/Datasheets-304/55396.pdf; Height: 1.75mm; Mouser Part Number: 579-MCP3004-I/SL; Mouser Price/Stock: https://www.mouser.co.uk/ProductDetail/Microchip-Technology/MCP3004-I-SL?qs=mehPC4wL4j%2FaEb1%252Bx2zmIg%3D%3D; Arrow Part Number: MCP3004-I/SL; Arrow Price/Stock: https://www.arrow.com/en/products/mcp3004-isl/microchip-technology?region=europe
footprint SOIC127P600X175-14N
pins: 1 CH0, 2 CH1, 3 CH2, 4 CH3, 5 NC_1, 6 NC_2, 7 DGND, 8 ~{CS}/SHDN, 9 DIN, 10 DOUT, 11 CLK, 12 AGND, 13 VREF, 14 VDD

## MCP3004-I_ST
designator IC?
Integrated Circuit; Manufacturer_Name: Microchip; Manufacturer_Part_Number: MCP3004-I/ST; Datasheet Link: http://componentsearchengine.com/Datasheets/3/MCP3004-I_ST.pdf; Height: 1.1mm; Mouser Part Number: 579-MCP3004-I/ST; Mouser Price/Stock: https://www.mouser.co.uk/ProductDetail/Microchip-Technology/MCP3004-I-ST?qs=mehPC4wL4j9WkfObhikLvg%3D%3D; Arrow Part Number: MCP3004-I/ST; Arrow Price/Stock: https://www.arrow.com/en/products/mcp3004-ist/microchip-technology?region=nac
footprint SOP65P638X110-14N
pins: 1 CH0, 2 CH1, 3 CH2, 4 CH3, 5 NC_1, 6 NC_2, 7 DGND, 8 ~{CS}/SHDN, 9 DIN, 10 DOUT, 11 CLK, 12 AGND, 13 VREF, 14 VDD

## MCP3421A0T-E_CH
designator IC?
Integrated Circuit; Manufacturer_Name: Microchip; Manufacturer_Part_Number: MCP3421A0T-E/CH; Datasheet Link: http://ww1.microchip.com/downloads/en/DeviceDoc/22003e.pdf; Height: 1.45mm; Mouser Part Number: 579-MCP3421A0T-E/CH; Mouser Price/Stock: https://www.mouser.co.uk/ProductDetail/Microchip-Technology/MCP3421A0T-E-CH?qs=hH%252BOa0VZEiAAD%252B%252BQL9ANdQ%3D%3D; Arrow Part Number: MCP3421A0T-E/CH; Arrow Price/Stock: https://www.arrow.com/en/products/mcp3421a0t-ech/microchip-technology?region=nac
footprint SOT95P270X145-6N
pins: 1 VIN+, 2 VSS, 3 SCL, 4 SDA, 5 VDD, 6 VIN-

## MCP6042-E_MS
designator IC?
Integrated Circuit; Manufacturer_Name: Microchip; Manufacturer_Part_Number: MCP6042-E/MS; Datasheet Link: https://datasheet.datasheetarchive.com/originals/distributors/SFDatasheet-4/sf-00090090.pdf; Height: 1.1mm; Mouser Part Number: 579-MCP6042-E/MS; Mouser Price/Stock: https://www.mouser.co.uk/ProductDetail/Microchip-Technology-Atmel/MCP6042-E-MS?qs=huzeVNXgovXPKIbiVY8ppw%3D%3D; Arrow Part Number: MCP6042-E/MS; Arrow Price/Stock: https://www.arrow.com/en/products/mcp6042-ems/microchip-technology?region=nac
footprint SOP65P490X110-8N
pins: 1 VOUTA, 2 VINA_-, 3 VINA+, 4 VSS, 5 VINB+, 6 VINB_-, 7 VOUTB, 8 VDD

## MCP6052-E_SN
designator IC?
Integrated Circuit; Manufacturer_Name: Microchip; Manufacturer_Part_Number: MCP6052-E/SN; Datasheet Link: http://ww1.microchip.com/downloads/en/DeviceDoc/MCP6051_DS22182B.pdf; Height: 1.75mm; Mouser Part Number: 579-MCP6052-E/SN; Mouser Price/Stock: https://www.mouser.com/Search/Refine.aspx?Keyword=579-MCP6052-E%2FSN
footprint SOIC127P600X175-8N
pins: 1 VOUTA (out), 2 VINA- (in), 3 VINA+ (in), 4 VSS (power), 5 VINB+ (in), 6 VINB- (in), 7 VOUTB (out), 8 VDD (power)

## MCP6542-I_MS
designator IC?
Integrated Circuit; Manufacturer_Name: Microchip; Manufacturer_Part_Number: MCP6542-I/MS; Datasheet Link: https://datasheet.datasheetarchive.com/originals/distributors/SFDatasheet-4/sf-00090099.pdf; Height: 1.1mm; Mouser Part Number: 579-MCP6542-I/MS; Mouser Price/Stock: https://www.mouser.co.uk/ProductDetail/Microchip-Technology/MCP6542-I-MS?qs=cQYLKLPzRJm4odW0iUx%252BSg%3D%3D; Arrow Part Number: MCP6542-I/MS; Arrow Price/Stock: https://www.arrow.com/en/products/mcp6542-ims/microchip-technology?region=nac
footprint SOP65P490X110-8N
pins: 1 OUTA, 2 VINA-, 3 VINA+, 4 VSS, 5 VINB+, 6 VINB-, 7 OUTB, 8 VDD

## MCP16311T-E_MNY
designator IC?
Integrated Circuit; Manufacturer_Name: Microchip; Manufacturer_Part_Number: MCP16311T-E/MNY; Datasheet Link: https://datasheet.datasheetarchive.com/originals/distributors/Datasheets-DGA22/1282819.pdf; Height: 0.8mm; Mouser Part Number: 579-MCP16311T-E/MNY; Mouser Price/Stock: https://www.mouser.co.uk/ProductDetail/Microchip-Technology/MCP16311T-E-MNY?qs=6qKXPk0vzx1V1ZrUQA0ENw%3D%3D; Arrow Part Number: MCP16311T-E/MNY; Arrow Price/Stock: https://www.arrow.com/en/products/mcp16311t-emny/microchip-technology?region=nac
footprint SON50P300X200X80-9N-D
pins: 1 VFB, 2 VCC, 3 EN, 4 VIN, 5 PGND, 6 SW, 7 BOOST, 8 AGND, 9 EP

## MIC4606-2YTS-TR
designator IC?
Integrated Circuit; Manufacturer_Name: Microchip; Manufacturer_Part_Number: MIC4606-2YTS-TR; Datasheet Link: https://eu.mouser.com/datasheet/2/268/20005604B-1286645.pdf; Height: 1.2mm; Mouser Part Number: 579-MIC4606-2YTS-TR; Mouser Price/Stock: https://www.mouser.co.uk/ProductDetail/Microchip-Technology-Atmel/MIC4606-2YTS-TR?qs=fxR7EJxuiMGiGNq6G0IdXQ%3D%3D; Arrow Part Number: MIC4606-2YTS-TR; Arrow Price/Stock: https://www.arrow.com/en/products/mic4606-2yts-tr/microchip-technology?region=nac
footprint SOP65P640X120-16N
pins: 1 BHB, 2 EN, 3 BPWM, 4 NC_1, 5 NC_2, 6 APWM, 7 NC_3, 8 AHB, 9 AHO, 10 AHS, 11 ALO, 12 VDD, 13 VSS, 14 BLO, 15 BHS, 16 BHO

## MIC5239-3.3YS-TR
designator IC?
Integrated Circuit; Manufacturer_Name: Microchip; Manufacturer_Part_Number: MIC5239-3.3YS-TR; Datasheet Link: https://ww1.microchip.com/downloads/en/DeviceDoc/mic5239.pdf; Height: 1.8mm; Mouser Part Number: 998-MIC5239-3.3YSTR; Mouser Price/Stock: https://www.mouser.co.uk/ProductDetail/Microchip-Technology-Micrel/MIC5239-33YS-TR?qs=U6T8BxXiZAXN0UitWWB92A%3D%3D; Arrow Part Number: MIC5239-3.3YS-TR; Arrow Price/Stock: https://www.arrow.com/en/products/mic5239-3.3ys-tr/microchip-technology?region=nac
footprint SOT230P700X180-4N
pins: 1 IN, 2 GND_1, 3 OUT, 4 GND_2

## MIC39100-3.3WS
designator IC?
Integrated Circuit; Manufacturer_Name: Microchip; Manufacturer_Part_Number: MIC39100-3.3WS; Datasheet Link: https://datasheet.datasheetarchive.com/originals/distributors/Datasheets_SAMA/541e8a74f8cf42dc77b8c3b1eb44f550.pdf; Height: 1.8mm; Mouser Part Number: 998-MIC39100-3.3WS; Mouser Price/Stock: https://www.mouser.co.uk/ProductDetail/Microchip-Technology/MIC39100-3.3WS?qs=kh6iOki%2FeLFeBsZzxQ9l7A%3D%3D; Arrow Part Number: MIC39100-3.3WS; Arrow Price/Stock: https://www.arrow.com/en/products/mic39100-3.3ws/microchip-technology?utm_currency=USD&region=europe
footprint SOT230P700X180-4N
pins: 1 IN, 2 GND_1, 3 OUT, 4 GND_2

## Micro_B
designator j?, comment MicroB_1981568-1
footprint 1981568-1
pins: 1 VCC, 2 D-, 3 D+, 4 ID, 5 GND

## microb
designator *
pins: 1 VCC, 2 D-, 3 D+, 4 ID, 5 GND

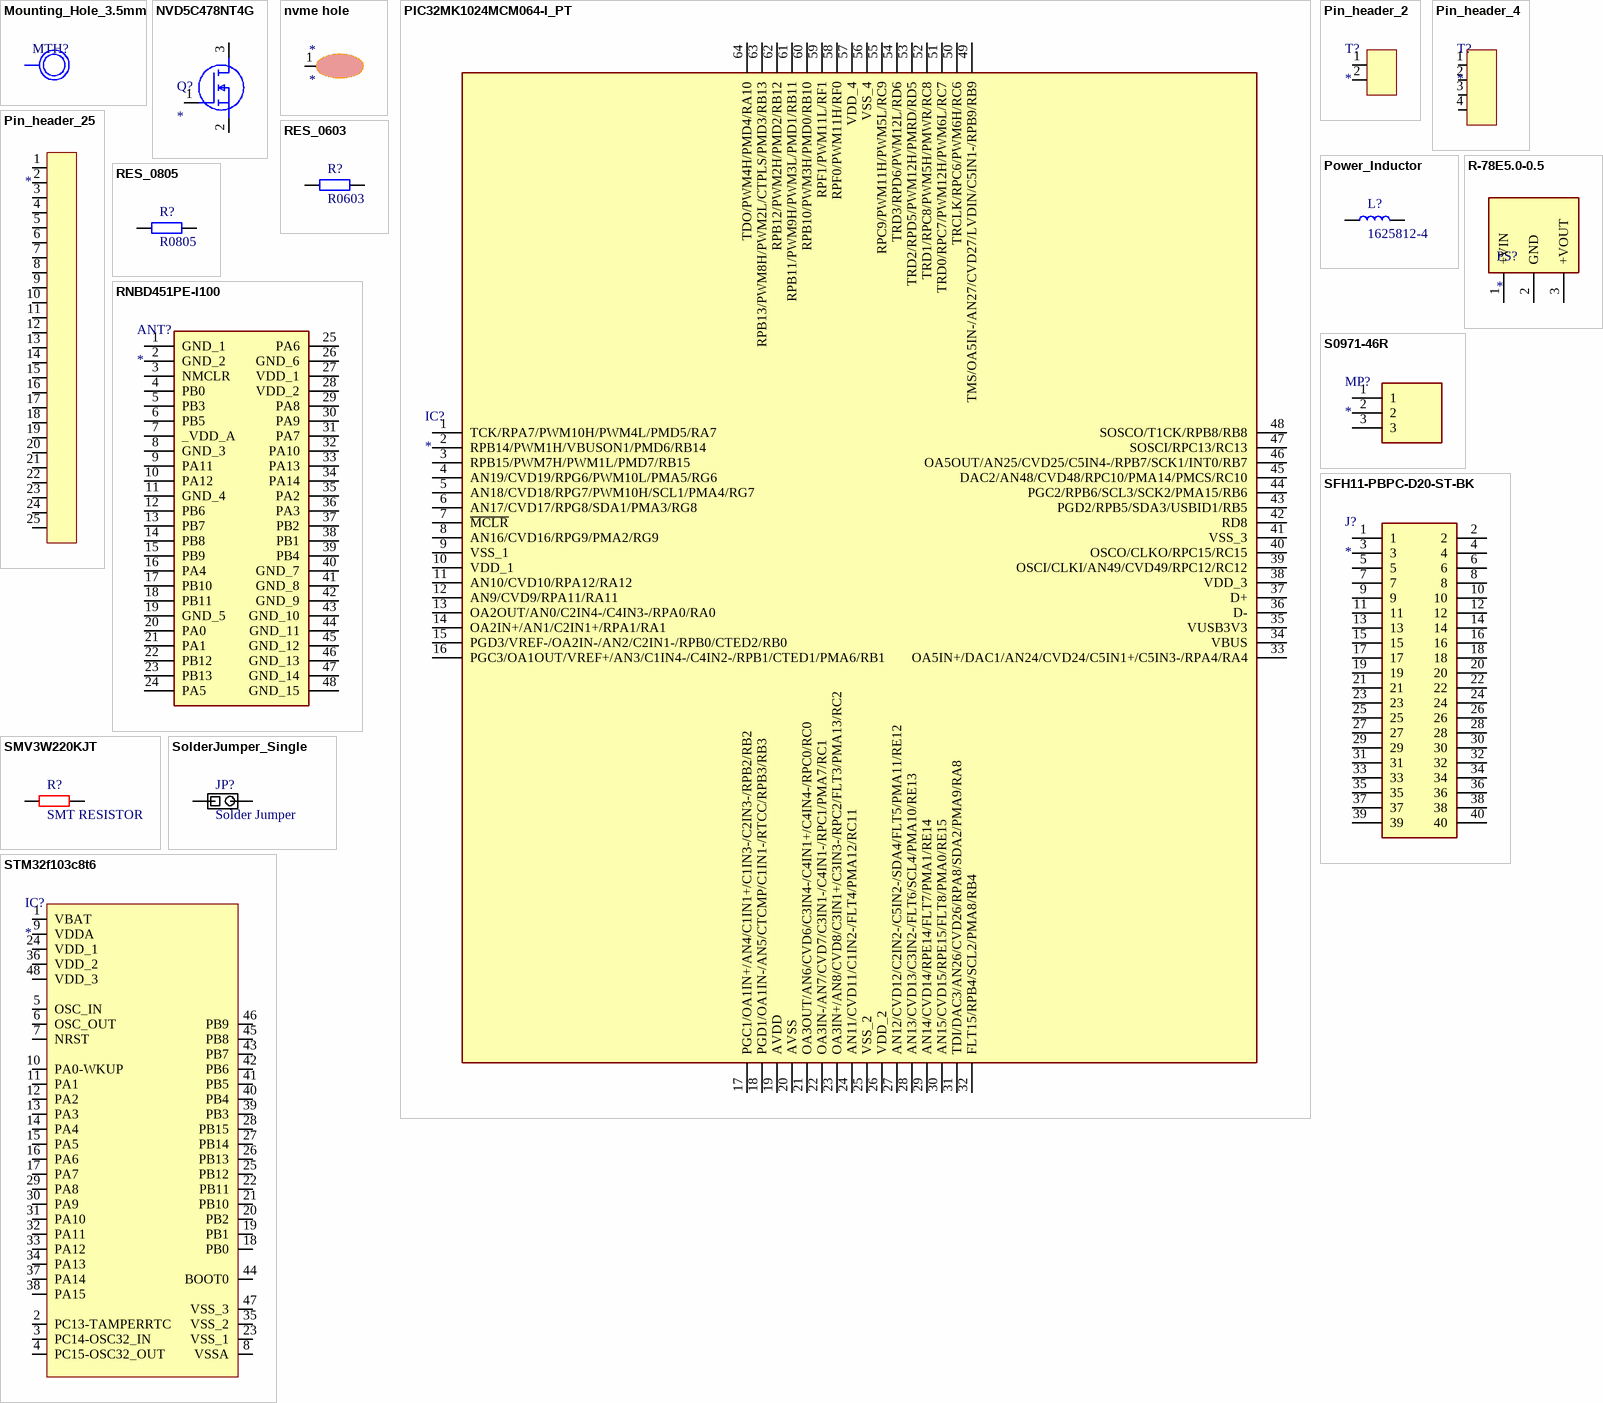
[diagram p2: symbols Mounting_Hole_3.5mm to STM32f103c8t6]

## Mounting_Hole_3.5mm
designator MTH?  (value not drawn)
footprint Mounting_Hole_3.5mm
pins: 1

## NVD5C478NT4G
designator Q?
MOSFET (N-Channel); Manufacturer_Name: onsemi; Manufacturer_Part_Number: NVD5C478NT4G; Datasheet Link: http://www.onsemi.com/pub/Collateral/NVD5C478N-D.PDF; Mouser Part Number: 863-NVD5C478NT4G; Mouser Price/Stock: https://www.mouser.co.uk/ProductDetail/ON-Semiconductor/NVD5C478NT4G/?qs=y6ZabgHbY%252Bxvq0EyOcHTlg%3D%3D; Arrow Part Number: NVD5C478NT4G; Arrow Price/Stock: https://www.arrow.com/en/products/nvd5c478nt4g/on-semiconductor?region=nac
footprint DPAK_(SINGLE-GAUGE)_TO-252(369C)_ISSUE_F
pins: 1 G, 2 S, 3 D

## nvme hole
designator *
pins: 1

## PIC32MK1024MCM064-I_PT
designator IC?
Integrated Circuit; Manufacturer_Name: Microchip; Manufacturer_Part_Number: PIC32MK1024MCM064-I/PT; Datasheet Link: https://ww1.microchip.com/downloads/aemDocuments/documents/MCU32/ProductDocuments/DataSheets/PIC32MK-GPK-MCM-with-CAN-FD-Family-DataSheet-DS60001519E.pdf; Height: 1.2mm; Mouser Part Number: 579-2MK1024MCM064IPT; Mouser Price/Stock: https://www.mouser.co.uk/ProductDetail/Microchip-Technology/PIC32MK1024MCM064-I-PT?qs=W%2FMpXkg%252BdQ4dBI32NJdQMg%3D%3D; Arrow Part Number: PIC32MK1024MCM064-I/PT; Arrow Price/Stock: https://www.arrow.com/en/products/pic32mk1024mcm064-ipt/microchip-technology?region=nac
footprint QFP50P1200X1200X120-64N
pins: 1 TCK/RPA7/PWM10H/PWM4L/PMD5/RA7, 2 RPB14/PWM1H/VBUSON1/PMD6/RB14, 3 RPB15/PWM7H/PWM1L/PMD7/RB15, 4 AN19/CVD19/RPG6/PWM10L/PMA5/RG6, 5 AN18/CVD18/RPG7/PWM10H/SCL1/PMA4/RG7, 6 AN17/CVD17/RPG8/SDA1/PMA3/RG8, 7 ~{MCLR}, 8 AN16/CVD16/RPG9/PMA2/RG9, 9 VSS_1, 10 VDD_1, 11 AN10/CVD10/RPA12/RA12, 12 AN9/CVD9/RPA11/RA11, 13 OA2OUT/AN0/C2IN4-/C4IN3-/RPA0/RA0, 14 OA2IN+/AN1/C2IN1+/RPA1/RA1, 15 PGD3/VREF-/OA2IN-/AN2/C2IN1-/RPB0/CTED2/RB0, 16 PGC3/OA1OUT/VREF+/AN3/C1IN4-/C4IN2-/RPB1/CTED1/PMA6/RB1, 17 PGC1/OA1IN+/AN4/C1IN1+/C1IN3-/C2IN3-/RPB2/RB2, 18 PGD1/OA1IN-/AN5/CTCMP/C1IN1-/RTCC/RPB3/RB3, 19 AVDD, 20 AVSS, 21 OA3OUT/AN6/CVD6/C3IN4-/C4IN1+/C4IN4-/RPC0/RC0, 22 OA3IN-/AN7/CVD7/C3IN1-/C4IN1-/RPC1/PMA7/RC1, 23 OA3IN+/AN8/CVD8/C3IN1+/C3IN3-/RPC2/FLT3/PMA13/RC2, 24 AN11/CVD11/C1IN2-/FLT4/PMA12/RC11, 25 VSS_2, 26 VDD_2, 27 AN12/CVD12/C2IN2-/C5IN2-/SDA4/FLT5/PMA11/RE12, 28 AN13/CVD13/C3IN2-/FLT6/SCL4/PMA10/RE13, 29 AN14/CVD14/RPE14/FLT7/PMA1/RE14, 30 AN15/CVD15/RPE15/FLT8/PMA0/RE15, 31 TDI/DAC3/AN26/CVD26/RPA8/SDA2/PMA9/RA8, 32 FLT15/RPB4/SCL2/PMA8/RB4, 33 OA5IN+/DAC1/AN24/CVD24/C5IN1+/C5IN3-/RPA4/RA4, 34 VBUS, 35 VUSB3V3, 36 D-, 37 D+, 38 VDD_3, 39 OSCI/CLKI/AN49/CVD49/RPC12/RC12, 40 OSCO/CLKO/RPC15/RC15, 41 VSS_3, 42 RD8, 43 PGD2/RPB5/SDA3/USBID1/RB5, 44 PGC2/RPB6/SCL3/SCK2/PMA15/RB6, 45 DAC2/AN48/CVD48/RPC10/PMA14/PMCS/RC10, 46 OA5OUT/AN25/CVD25/C5IN4-/RPB7/SCK1/INT0/RB7, 47 SOSCI/RPC13/RC13, 48 SOSCO/T1CK/RPB8/RB8, 49 TMS/OA5IN-/AN27/CVD27/LVDIN/C5IN1-/RPB9/RB9, 50 TRCLK/RPC6/PWM6H/RC6, 51 TRD0/RPC7/PWM12H/PWM6L/RC7, 52 TRD1/RPC8/PWM5H/PMWR/RC8, 53 TRD2/RPD5/PWM12H/PMRD/RD5, 54 TRD3/RPD6/PWM12L/RD6, 55 RPC9/PWM11H/PWM5L/RC9, 56 VSS_4, 57 VDD_4, 58 RPF0/PWM11H/RF0, 59 RPF1/PWM11L/RF1, 60 RPB10/PWM3H/PMD0/RB10, 61 RPB11/PWM9H/PWM3L/PMD1/RB11, 62 RPB12/PWM2H/PMD2/RB12, 63 RPB13/PWM8H/PWM2L/CTPLS/PMD3/RB13, 64 TDO/PWM4H/PMD4/RA10

## Pin_header_2
designator T?
footprint Pin_header_2
pins: 1 (io), 2 (io)

## Pin_header_4
designator T?
footprint Pin_header_4
pins: 1 (io), 2 (io), 3 (io), 4 (io)

## Pin_header_25
designator T?
footprint Pin_header_25
pins: 1 (io), 2 (io), 3 (io), 4 (io), 5 (io), 6 (io), 7 (io), 8 (io), 9 (io), 10 (io), 11 (io), 12 (io), 13 (io), 14 (io), 15 (io), 16 (io), 17 (io), 18 (io), 19 (io), 20 (io), 21 (io), 22 (io), 23 (io), 24 (io), 25 (io)

## Power_Inductor
designator L?, comment 1625812-4
TE 1625812-4
footprint Power_Inductor
footprint IND_AISC-1812H-331K-T
pins: 1, 2

## R-78E5.0-0.5
designator PS?
Power Supply; Manufacturer_Name: RECOM Power; Manufacturer_Part_Number: R-78E5.0-0.5; Datasheet Link: https://datasheet.datasheetarchive.com/originals/distributors/Datasheets_SAMA/1560217c2d38d5ce10907af13420fc49.pdf; Height: 10.9mm; Mouser Part Number: 919-R-78E5.0-0.5; Mouser Price/Stock: https://www.mouser.co.uk/ProductDetail/RECOM-Power/R-78E5.0-0.5?qs=JeAkOuORR2UvBuiB2kZVZQ%3D%3D; Arrow Part Number: R-78E5.0-0.5; Arrow Price/Stock: https://www.arrow.com/en/products/r-78e5.0-0.5/recom-power?region=europe
footprint R78E5005
pins: 1 +VIN, 2 GND, 3 +VOUT

## RES_0603
designator R?, comment R0603
Resistor SMD 0603; Manufacturer: *; Manufacturer Part Number: *; Distributor Link: *; LCSC: *
footprint RES_0603
pins: 1, 2

## RES_0805
designator R?, comment R0805
Resistor SMD 0805
footprint RES_0805
pins: 1, 2

## RNBD451PE-I100
designator ANT?
Antenna; Manufacturer_Name: Microchip; Manufacturer_Part_Number: RNBD451PE-I100; Datasheet Link: https://ww1.microchip.com/downloads/aemDocuments/documents/WSG/ProductDocuments/DataSheets/RNBD451-Data-Sheet-70005514.pdf; Height: 2.8mm; Mouser Part Number: 579-RNBD451PE-I100; Mouser Price/Stock: https://www.mouser.co.uk/ProductDetail/Microchip-Technology/RNBD451PE-I100?qs=amGC7iS6iy9gnQtKmLcyVQ%3D%3D; Arrow Part Number: RNBD451PE-I100; Arrow Price/Stock: https://www.arrow.com/en/products/rnbd451pe-i100/microchip-technology?utm_currency=USD&region=nac
footprint RNBD451PEI100
pins: 1 GND_1, 2 GND_2, 3 NMCLR, 4 PB0, 5 PB3, 6 PB5, 7 _VDD_A, 8 GND_3, 9 PA11, 10 PA12, 11 GND_4, 12 PB6, 13 PB7, 14 PB8, 15 PB9, 16 PA4, 17 PB10, 18 PB11, 19 GND_5, 20 PA0, 21 PA1, 22 PB12, 23 PB13, 24 PA5, 25 PA6, 26 GND_6, 27 VDD_1, 28 VDD_2, 29 PA8, 30 PA9, 31 PA7, 32 PA10, 33 PA13, 34 PA14, 35 PA2, 36 PA3, 37 PB2, 38 PB1, 39 PB4, 40 GND_7, 41 GND_8, 42 GND_9, 43 GND_10, 44 GND_11, 45 GND_12, 46 GND_13, 47 GND_14, 48 GND_15

## S0971-46R
designator MP?
Mechanical Part; Manufacturer_Name: Harwin; Manufacturer_Part_Number: S0971-46R; Datasheet Link: https://cdn.harwin.com/pdfs/S0971-46R.pdf; Height: 2.1mm; Mouser Part Number: 855-S0971-46R; Mouser Price/Stock: https://www.mouser.co.uk/ProductDetail/Harwin/S0971-46R?qs=AXRVZpzixL%252Bly5Y74siI1Q%3D%3D
footprint S097146R
pins: 1, 2, 3

## SFH11-PBPC-D20-ST-BK
designator J?
Connector; Manufacturer_Name: Sullins; Manufacturer_Part_Number: SFH11-PBPC-D20-ST-BK; Datasheet Link: http://sullinscorp.com/catalogs/146_PAGE119_.100_SFH11_SERIES_FEMALE_HDR_ST_RA.pdf; Height: 8.5mm
footprint RHDR40W60P254_2X20_5578X600X850P
pins: 1, 2, 3, 4, 5, 6, 7, 8, 9, 10, 11, 12, 13, 14, 15, 16, 17, 18, 19, 20, 21, 22, 23, 24, 25, 26, 27, 28, 29, 30, 31, 32, 33, 34, 35, 36, 37, 38, 39, 40

## SMV3W220KJT
designator R?, comment SMT RESISTOR
footprint SMV3W220KJT
pins: 1, 2

## SolderJumper_Single
designator JP?, comment Solder Jumper
Solder Jumper Single 0.5mm Pitch
footprint SolderJumper_Single
pins: 1, 2

## STM32f103c8t6
designator IC?
footprint QFP50P900X900X160-48N
pins: 1 VBAT (power), 2 PC13-TAMPERRTC, 3 PC14-OSC32_IN, 4 PC15-OSC32_OUT, 5 OSC_IN, 6 OSC_OUT, 7 NRST, 8 VSSA (power), 9 VDDA (power), 10 PA0-WKUP (io), 11 PA1 (io), 12 PA2 (io), 13 PA3 (io), 14 PA4 (io), 15 PA5 (io), 16 PA6 (io), 17 PA7 (io), 18 PB0 (io), 19 PB1 (io), 20 PB2 (io), 21 PB10 (io), 22 PB11 (io), 23 VSS_1 (power), 24 VDD_1 (power), 25 PB12 (io), 26 PB13 (io), 27 PB14 (io), 28 PB15 (io), 29 PA8 (io), 30 PA9 (io), 31 PA10 (io), 32 PA11 (io), 33 PA12 (io), 34 PA13 (io), 35 VSS_2 (power), 36 VDD_2 (power), 37 PA14 (io), 38 PA15 (io), 39 PB3 (io), 40 PB4 (io), 41 PB5 (io), 42 PB6 (io), 43 PB7 (io), 44 BOOT0, 45 PB8 (io), 46 PB9 (io), 47 VSS_3 (power), 48 VDD_3 (power)

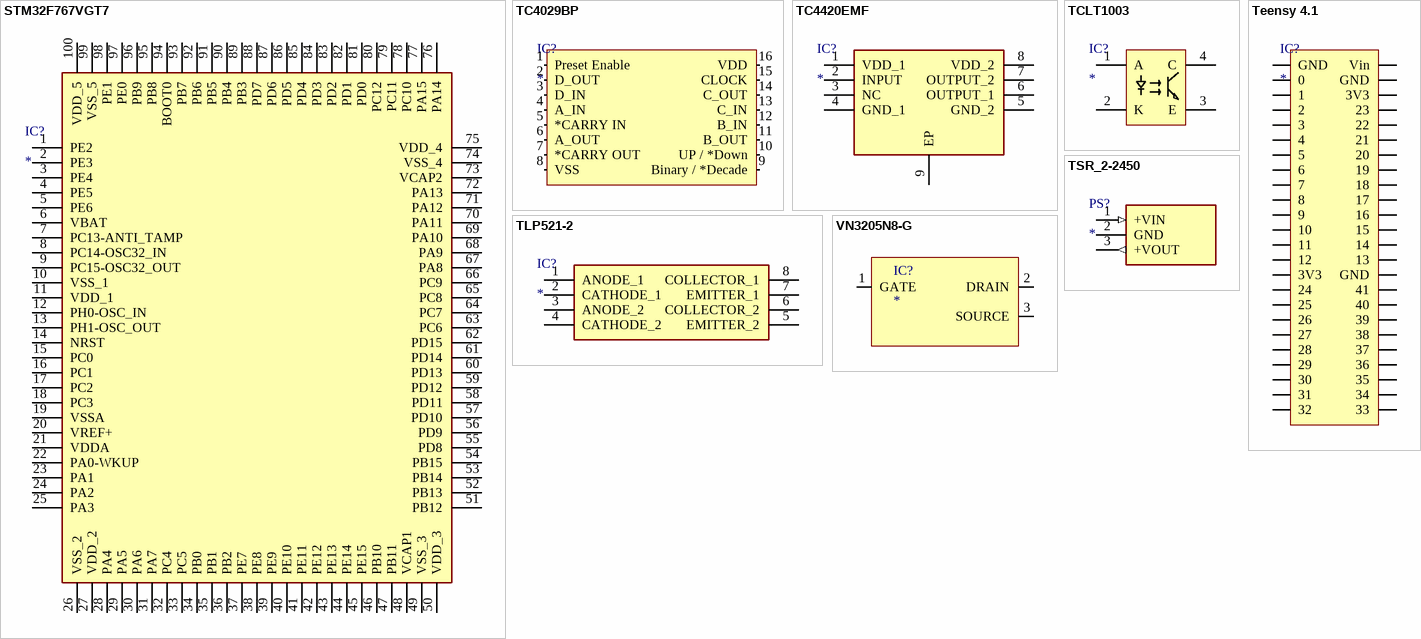
[diagram p3: symbols STM32F767VGT7 to VN3205N8-G]

## STM32F767VGT7
designator IC?
Integrated Circuit; Manufacturer_Name: STMicroelectronics; Manufacturer_Part_Number: STM32F767VGT7; Datasheet Link: https://www.arrow.com/en/products/stm32f767vgt7/stmicroelectronics; Height: 1.6mm; Mouser Part Number: 511-STM32F767VGT7; Mouser Price/Stock: https://www.mouser.co.uk/ProductDetail/STMicroelectronics/STM32F767VGT7?qs=FNcb6ahWXRx6xDaepQVhqA%3D%3D; Arrow Part Number: STM32F767VGT7; Arrow Price/Stock: https://www.arrow.com/en/products/stm32f767vgt7/stmicroelectronics?region=nac
footprint QFP50P1600X1600X160-100N
pins: 1 PE2, 2 PE3, 3 PE4, 4 PE5, 5 PE6, 6 VBAT, 7 PC13-ANTI_TAMP, 8 PC14-OSC32_IN, 9 PC15-OSC32_OUT, 10 VSS_1, 11 VDD_1, 12 PH0-OSC_IN, 13 PH1-OSC_OUT, 14 NRST, 15 PC0, 16 PC1, 17 PC2, 18 PC3, 19 VSSA, 20 VREF+, 21 VDDA, 22 PA0-WKUP, 23 PA1, 24 PA2, 25 PA3, 26 VSS_2, 27 VDD_2, 28 PA4, 29 PA5, 30 PA6, 31 PA7, 32 PC4, 33 PC5, 34 PB0, 35 PB1, 36 PB2, 37 PE7, 38 PE8, 39 PE9, 40 PE10, 41 PE11, 42 PE12, 43 PE13, 44 PE14, 45 PE15, 46 PB10, 47 PB11, 48 VCAP1, 49 VSS_3, 50 VDD_3, 51 PB12, 52 PB13, 53 PB14, 54 PB15, 55 PD8, 56 PD9, 57 PD10, 58 PD11, 59 PD12, 60 PD13, 61 PD14, 62 PD15, 63 PC6, 64 PC7, 65 PC8, 66 PC9, 67 PA8, 68 PA9, 69 PA10, 70 PA11, 71 PA12, 72 PA13, 73 VCAP2, 74 VSS_4, 75 VDD_4, 76 PA14, 77 PA15, 78 PC10, 79 PC11, 80 PC12, 81 PD0, 82 PD1, 83 PD2, 84 PD3, 85 PD4, 86 PD5, 87 PD6, 88 PD7, 89 PB3, 90 PB4, 91 PB5, 92 PB6, 93 PB7, 94 BOOT0, 95 PB8, 96 PB9, 97 PE0, 98 PE1, 99 VSS_5, 100 VDD_5

## TC4029BP
designator IC?
4bit counter
pins: 1 Preset Enable (in), 2 D_OUT (in), 3 D_IN (in), 4 A_IN (in), 5 *CARRY IN (in), 6 A_OUT (in), 7 *CARRY OUT (in), 8 VSS (in), 9 Binary / *Decade (in), 10 UP / *Down (in), 11 B_OUT (in), 12 B_IN (in), 13 C_IN (in), 14 C_OUT (in), 15 CLOCK (in), 16 VDD (in)

## TC4420EMF
designator IC?
Integrated Circuit; Manufacturer_Name: Microchip; Manufacturer_Part_Number: TC4420EMF; Datasheet Link: https://www.arrow.com/en/products/tc4420emf/microchip-technology?region=nac; Height: 0.95mm; Mouser Part Number: 579-TC4420EMF; Mouser Price/Stock: https://www.mouser.co.uk/ProductDetail/Microchip-Technology/TC4420EMF?qs=wPbeaPfwU98xE18J%252BR7%2F5A%3D%3D; Arrow Part Number: TC4420EMF; Arrow Price/Stock: https://www.arrow.com/en/products/tc4420emf/microchip-technology?region=nac
footprint SON127P500X600X95-9N
pins: 1 VDD_1, 2 INPUT, 3 NC, 4 GND_1, 5 GND_2, 6 OUTPUT_1, 7 OUTPUT_2, 8 VDD_2, 9 EP

## TCLT1003
designator IC?
Integrated Circuit; Manufacturer_Name: Vishay; Manufacturer_Part_Number: TCLT1003; Datasheet Link: http://www.vishay.com/docs/83515/tclt1000.pdf; Height: 2.3mm; Mouser Part Number: 782-TCLT1003; Mouser Price/Stock: https://www.mouser.co.uk/ProductDetail/Vishay-Semiconductors/TCLT1003?qs=6T8DmbO4ukdpx1NL%252BFEFkQ%3D%3D; Arrow Part Number: TCLT1003; Arrow Price/Stock: https://www.arrow.com/en/products/tclt1003/vishay?region=nac
footprint SOP254P1015X230-4N
pins: 1 A, 2 K, 3 E, 4 C

## Teensy 4.1
designator IC?
ARM Cortex-M7 at 600 MHz / Float point math unit, 64 & 32 bits / 7936K Flash, 1024K RAM (512K tightly coupled), 4K EEPROM (emulated) / QSPI memory expansion, locations for 2 extra RAM or Flash chips / USB device 480 Mbit/sec & USB host 480 Mbit/sec / 55 digital input/output pins, 35 PWM output pins / 18 analog input pins / 8 serial, 3 SPI, 3 I2C ports / 2 I2S/TDM and 1 S/PDIF digital audio port / 3 CAN Bus (1 with CAN FD) / 1 SDIO (4 bit) native SD Card port / Ethernet 10/100 Mbit with DP83825 PHY / 32 general purpose DMA channels / Cryptographic Acceleration & Random Number Generator / RTC for date/time / Programmable FlexIO / Pixel Processing Pipeline / Peripheral cross triggering / Power On/Off management
footprint Teensy 4.1
pins: 1 GND (power), 2 0 (io), 3 1 (io), 4 2 (io), 5 3 (io), 6 4 (io), 7 5 (io), 8 6 (io), 9 7 (io), 10 8 (io), 11 9 (io), 12 10 (io), 13 11 (io), 14 12 (io), 15 3V3 (power), 16 24 (io), 17 25 (io), 18 26 (io), 19 27 (io), 20 28 (io), 21 29 (io), 22 30 (io), 23 31 (io), 24 32 (io), 25 33 (io), 26 34 (io), 27 35 (io), 28 36 (io), 29 37 (io), 30 38 (io), 31 39 (io), 32 40 (io), 33 41 (io), 34 GND (power), 35 13 (io), 36 14 (io), 37 15 (io), 38 16 (io), 39 17 (io), 40 18 (io), 41 19 (io), 42 20 (io), 43 21 (io), 44 22 (io), 45 23 (io), 46 3V3 (power), 47 GND (power), 48 Vin (power)

## TLP521-2
designator IC?
Integrated Circuit; Manufacturer_Name: Toshiba; Manufacturer_Part_Number: TLP521-2; Datasheet Link: https://4donline.ihs.com/images/VipMasterIC/IC/TOSC/TOSC-S-A0009554558/TOSC-S-A0009554578-1.pdf?hkey=EF798316E3902B6ED9A73243A3159BB0; Height: 3.8mm
footprint DIP832W60P254L966H380Q8N
pins: 1 ANODE_1, 2 CATHODE_1, 3 ANODE_2, 4 CATHODE_2, 5 EMITTER_2, 6 COLLECTOR_2, 7 EMITTER_1, 8 COLLECTOR_1

## TSR_2-2450
designator PS?
Power Supply; Manufacturer_Name: Traco Power; Manufacturer_Part_Number: TSR 2-2450; Datasheet Link: https://tracopower.com/tsr2-datasheet/; Mouser Part Number: 495-TSR2-2450; Mouser Price/Stock: https://www.mouser.co.uk/ProductDetail/TRACO-Power/TSR-2-2450?qs=NtE2QagKf6RzknAolzm%2FTQ%3D%3D; Arrow Part Number: TSR 2-2450; Arrow Price/Stock: https://www.arrow.com/en/products/tsr2-2450/traco-electronic-ag?region=europe
footprint TSR-2
pins: 1 +VIN (in), 2 GND (power), 3 +VOUT (out)

## VN3205N8-G
designator IC?
footprint AMP_PHA-1+
pins: 1 GATE, 2 DRAIN, 3 SOURCE